# Altium footprint library PA_Test_Kartı_v2.PcbLib: 22 footprints (part 2 of 2)
Each footprint in its own frame and in the unit in brackets; x right, y up, seen from the top. Pads: shape width x height; smd on the part's side, far side on the other; paste and mask are expansions set on the pad; w line width, h text height; cw(c..) or ccw(c..) is an arc to the next point about the centre after c.
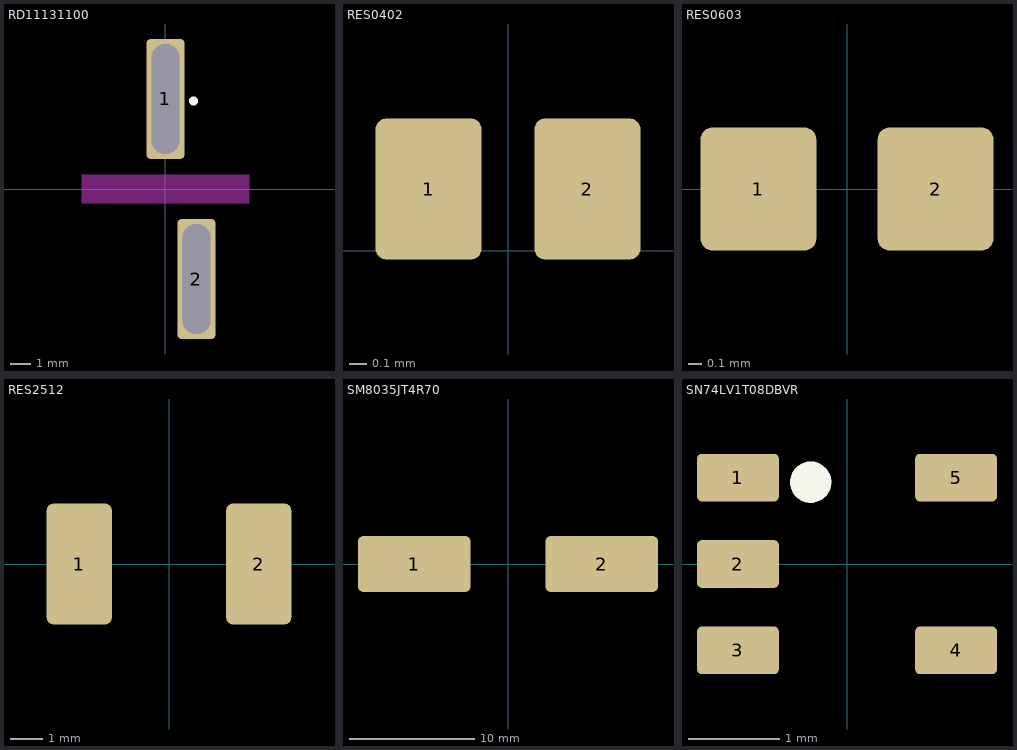
[diagram p1: the footprints below, top view; thin cyan lines are the x and y axes]

## RD11131100 [mm]
pads (2):
  rrect20% 1.9x6 hole 1.4 slot 5.5 at 90 deg mask+0.05: 1(0,4.5) 2(1.55,-4.5)
Top Overlay:
  circle w0.254: c1.4,4.4 r0.1
Keep-Out Layer:
  board cut-out: -4.2,0.7 4.2,0.7 4.2,-0.7 -4.2,-0.7
3D body "RD11131100.stp": height 22.42, standoff -6.35, extent -4.8,-10.629 4.8,10.625

## RES0402 [mm]
pads (2):
  rrect20% 0.6x0.8 smd mask+0.05: 1(-0.45,0.35) 2(0.45,0.35)
3D body "RC0402N_PAN.step": height 0.5, standoff 0, extent -0.525,0 0.525,0.711

## RES0603 [mm]
pads (2):
  rrect20% 0.85x0.9 smd mask+0.05: 1(-0.65,0) 2(0.65,0)
3D body "RC0603N_PAN.step": height 0.71, standoff 0, extent -0.8,-0.4 0.8,0.4

## RES2512 [mm]
pads (2):
  rrect20% 2x3.7 smd mask+0.05: 1(-2.75,0) 2(2.75,0)
3D body "cr2512.stp": height 0.6, standoff 0, extent -3.15,-1.55 3.15,1.55

## SM8035JT4R70 [mm]
pads (2):
  rrect20% 9x4.5 smd mask+0.05: 1(-7.5,0) 2(7.5,0)
3D body "RES_SM8035_STP.step": height 9.78, standoff 0, extent -10.947,-4.635 10.947,4.635

## SN74LV1T08DBVR [mm]
pads (5):
  rrect20% 0.9x0.525 smd mask+0.05: 1(-1.2,0.95) 2(-1.2,0) 3(-1.2,-0.95) 4(1.2,-0.95) 5(1.2,0.95)
Top Overlay:
  circle w0.254: c-0.4,0.9 r0.1
3D body "DBV0005A.stp": height 1.2, standoff 0, extent -1.4,-1.45 1.4,1.45